# Altium footprint library MLACHQ_S.PCBLIB: 155 footprints (part 2 of 10)
Each footprint in its own frame and in the unit in brackets; x right, y up, seen from the top. Pads: shape width x height; smd on the part's side, far side on the other; paste and mask are expansions set on the pad; w line width, h text height; cw(c..) or ccw(c..) is an arc to the next point about the centre after c.
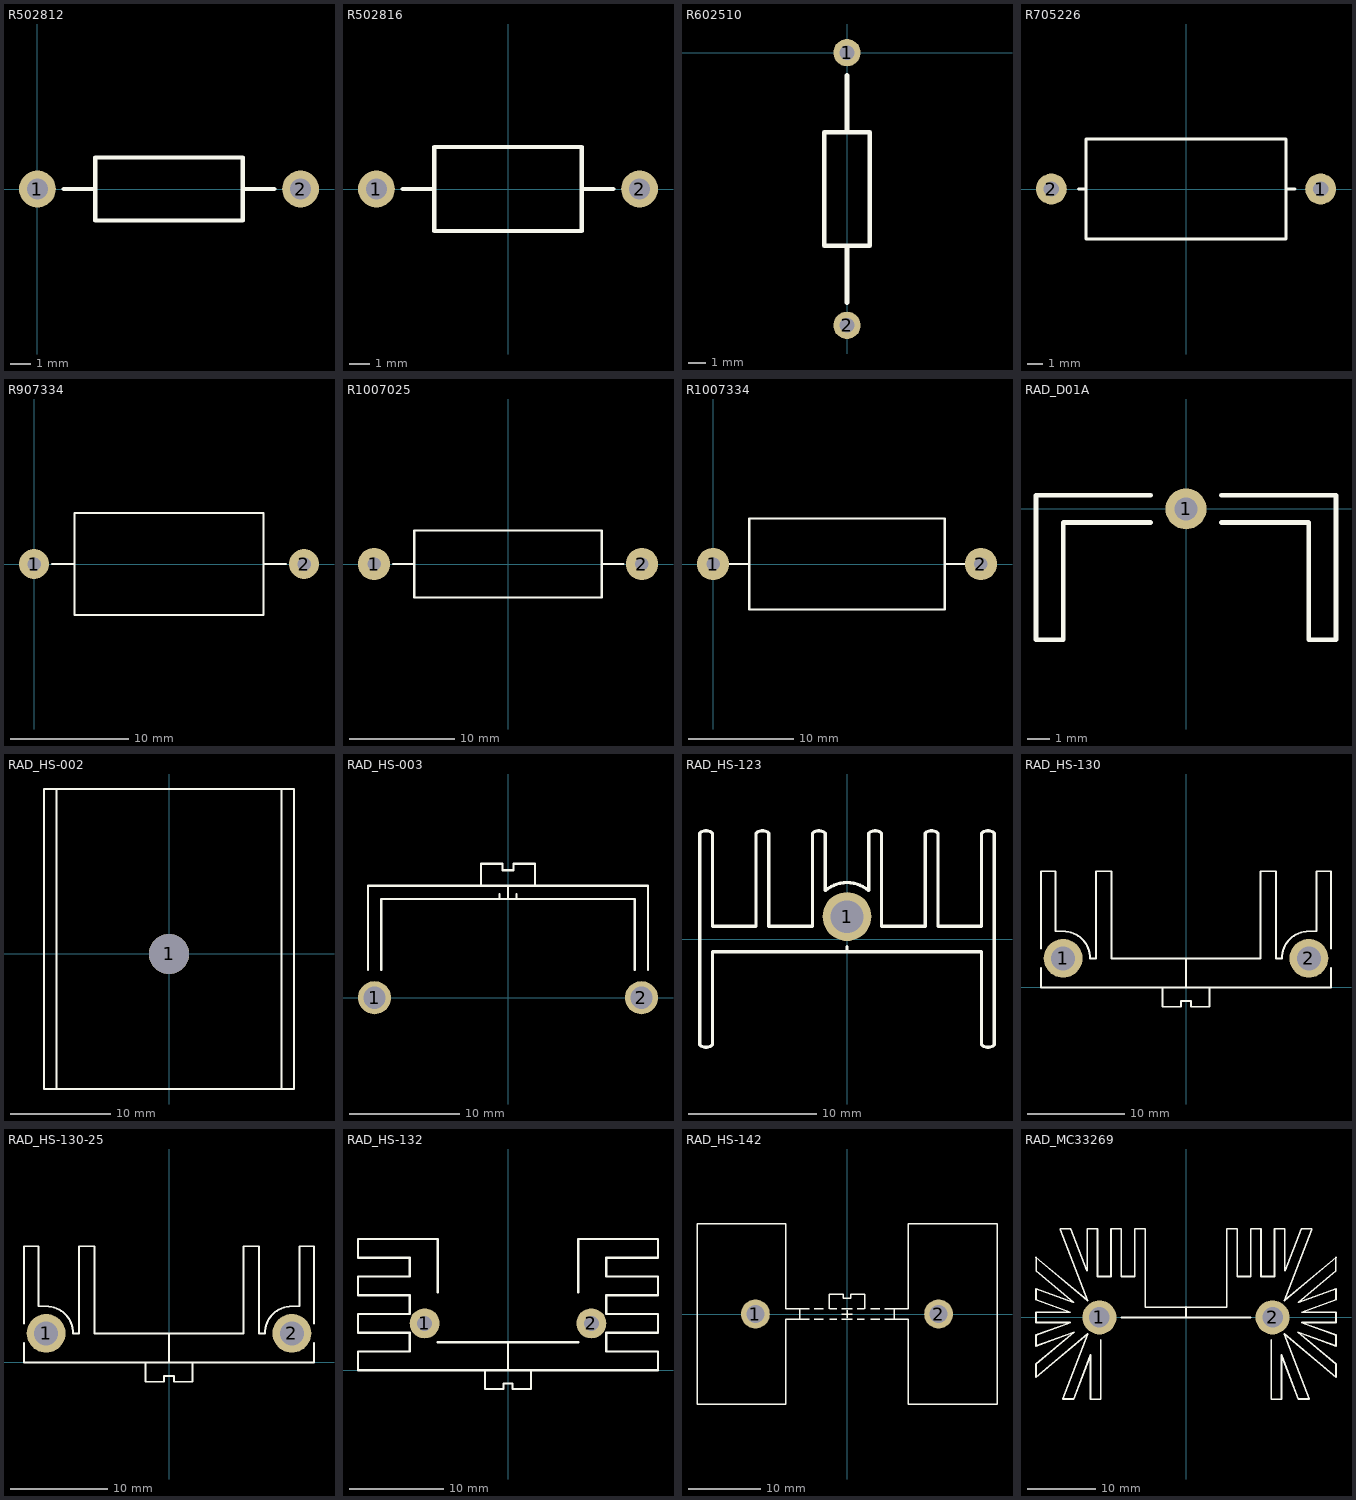
[diagram p1: the footprints below, top view; thin cyan lines are the x and y axes]

## R502812 [mil]
pads (2):
  round 70 hole 40: 1(0,0) 2(500,0)
TopOverlay:
  lines w8: 50,0 110,0 ; 390,0 450,0 ; 110,-60 390,-60 390,60 110,60 110,-60

## R502816 [mil]
pads (2):
  round 70 hole 40: 1(-250,0) 2(250,0)
TopOverlay:
  lines w8: -200,0 -140,0 ; 140,0 200,0 ; -140,-80 -140,80 140,80 140,-80 -140,-80

## R602510 [mil]
pads (2):
  round 60 hole 32: 1(0,0) 2(0,-600)
TopOverlay:
  lines w10: 0,-550 0,-425 ; 0,-175 0,-50 ; -50,-425 -50,-175 50,-175 50,-425 -50,-425

## R705226 [mil]
pads (2):
  round 80 hole 40: 1(350,0) 2(-350,0)
TopOverlay:
  lines w8: -279.53,0 -260,0 ; 260,0 283.46,0 ; -260,-130 -260,130 260,130 260,-130 -260,-130
3D body: height 121.89, standoff 82.68, extent 200.79,-11.79 350.39,27.5
3D body: height 118.11, standoff -78.74, extent 340,-11.79 379.21,27.5
3D body: height 122.05, standoff -78.74, extent -370.08,-19.65 -330.86,19.65
3D body: height 121.89, standoff 82.68, extent -344.49,-19.61 -151.57,19.68
3D body: height 200.01, standoff 3.94, extent -237.44,-98.23 235,98.23
3D body: height 203.92, standoff 0, extent 202.76,-102.36 214.57,101.96
3D body: height 203.92, standoff 0, extent 183.07,-101.96 194.88,102.36
3D body: height 203.92, standoff 0, extent 163.39,-101.96 175.2,102.36
3D body: height 203.92, standoff 0, extent 145.67,-101.96 157.48,102.36

## R907334 [mil]
pads (2):
  round 100 hole 45: 1(0,0) 2(900,0)
TopOverlay:
  lines w8: 60,0 130,0 ; 765,0 840,0 ; 135,-170 135,170 765,170 765,-170 135,-170

## R1007025 [mil]
pads (2):
  round 120 hole 50: 1(-500,0) 2(500,0)
TopOverlay:
  lines w8: -430,0 -350,0 ; 350,0 430,0 ; -350,-125 -350,125 350,125 350,-125 -350,-125

## R1007334 [mil]
pads (2):
  round 120 hole 50: 1(0,0) 2(1000,0)
TopOverlay:
  lines w8: 60,0 135,0 ; 865,0 940,0 ; 135,-170 865,-170 865,170 135,170 135,-170

## RAD_D01A [mm]
pads (1):
  round 1.8 hole 1: 1(0,0)
TopOverlay:
  lines w0.2: -1.55,-0.6 -5.4,-0.6 -5.4,-5.75 -6.6,-5.75 -6.6,-0.6 -6.6,0.6 -1.55,0.6 ; 1.55,-0.6 5.4,-0.6 5.4,-5.75 6.6,-5.75 6.6,-0.6 6.6,0.6 1.55,0.6
3D body: height 19.05, standoff 0, extent -6.6,-3.4 6.6,0.6
3D body: height 2.5, standoff 0, extent -6.6,-5.75 -5.4,-3.4
3D body: height 6.65, standoff 4.15, extent -6.6,-5.75 -5.4,-3.4
3D body: height 10.8, standoff 8.3, extent -6.6,-5.75 -5.4,-3.4
3D body: height 14.95, standoff 12.45, extent -6.6,-5.75 -5.4,-3.4
3D body: height 19.05, standoff 16.6, extent -6.6,-5.75 -5.4,-3.4
3D body: height 19.05, standoff 16.6, extent 5.4,-5.75 6.6,-3.4
3D body: height 14.95, standoff 12.45, extent 5.4,-5.75 6.6,-3.4
3D body: height 10.8, standoff 8.3, extent 5.4,-5.75 6.6,-3.4
3D body: height 6.65, standoff 4.15, extent 5.4,-5.75 6.6,-3.4
3D body: height 2.5, standoff 0, extent 5.4,-5.75 6.6,-3.4

## RAD_HS-002 [mm]
pads (1):
  round 4 hole 4: 1(0,0)
TopOverlay:
  lines w0.203: -11.25,-13.5 -11.25,16.5 ; 11.25,-13.5 11.25,16.5 ; -12.5,-13.5 12.5,-13.5 12.5,16.5 -12.5,16.5 -12.5,-13.5 ; -12.5,-13.5 -12.5,-13.5
3D body: height 13.75, standoff 0, extent -12.5,-13.5 12.5,16.5

## RAD_HS-003 [mm]
height 38
pads (2):
  round 3 hole 2: 1(-12.1,0) 2(12.1,0)
TopOverlay:
  lines w0.2: -2.45,10.15 -2.45,12.15 -0.5,12.15 -0.5,11.55 0,11.55 0.5,11.55 0.5,12.15 2.45,12.15 2.45,10.15
  lines w0.203: -12.7,2.54 -12.7,10.16 0,10.16 12.7,10.16 12.7,2.54 ; -11.5,2.54 -11.5,8.96 0,8.96 11.5,8.96 11.5,2.54 ; -0.762,9.017 -0.762,9.398 ; 0,9.017 0,10.033 ; 0.762,9.017 0.762,9.398
3D body: height 30, standoff 0, extent -12.7,-1.9 12.7,10.16

## RAD_HS-123 [mm]
pads (1):
  round 3.81 hole 2.54: 1(0,1.75)
TopOverlay:
  lines w0.254: -1.7,3.8 -1.7,8.25 ccw(c-2.2,7.75) -2.7,8.25 -2.7,1 -6.1,1 -6.1,8.25 ccw(c-6.6,7.75) -7.1,8.25 -7.1,1 -10.5,1 -10.5,8.25 ccw(c-11,7.75) -11.5,8.25 -11.5,-8.25 ccw(c-11,-7.75) -10.5,-8.25 -10.5,-1 10.5,-1 10.5,-8.25 ccw(c11,-7.75) 11.5,-8.25 11.5,8.25 ccw(c11,7.75) 10.5,8.25 10.5,1 7.1,1 7.1,8.25 ccw(c6.6,7.75) 6.1,8.25 6.1,1 2.7,1 2.7,8.25 ccw(c2.2,7.75) 1.7,8.25 1.7,3.8 ; -1.685,3.783 cw(c0,1.8) 1.685,3.783 ; 0,-1 0,-0.6

## RAD_HS-130 [mm]
height 38
pads (2):
  round 4 hole 2.5: 1(-12.7,3) 2(12.7,3)
TopOverlay:
  lines w0.2: -15,2 -15,0 0,0 ; -15,4 -15,12 -13.5,12 -13.5,5.8 -12.7,5.8 cw(c-12.7,3) -9.9,3 -9.3,3 -9.3,12 -7.7,12 -7.7,3 0,3 ; -2.45,0 -2.45,-2 -0.5,-2 -0.5,-1.4 0,-1.4 0.5,-1.4 0.5,-2 2.45,-2 2.45,0 ; 15,2 15,0 0,0 ; 15,4 15,12 13.5,12 13.5,5.8 12.7,5.8 ccw(c12.7,3) 9.9,3 9.3,3 9.3,12 7.7,12 7.7,3 0,3 ; 0,0 0,3
3D body: height 38.2, standoff 0, extent 0,0 15,12
3D body: height 38.2, standoff 0, extent -15,0 0,12

## RAD_HS-130-25 [mm]
height 38
pads (2):
  round 4 hole 2.5: 1(-12.7,3) 2(12.7,3)
TopOverlay:
  lines w0.2: -15,2 -15,0 0,0 ; -15,4 -15,12 -13.5,12 -13.5,5.8 -12.7,5.8 cw(c-12.7,3) -9.9,3 -9.3,3 -9.3,12 -7.7,12 -7.7,3 0,3 ; -2.45,0 -2.45,-2 -0.5,-2 -0.5,-1.4 0,-1.4 0.5,-1.4 0.5,-2 2.45,-2 2.45,0 ; 15,2 15,0 0,0 ; 15,4 15,12 13.5,12 13.5,5.8 12.7,5.8 ccw(c12.7,3) 9.9,3 9.3,3 9.3,12 7.7,12 7.7,3 0,3 ; 0,0 0,3
3D body: height 25, standoff 0, extent -15,0 0,12
3D body: height 25, standoff 0, extent 0,0 15,12

## RAD_HS-132 [mm]
height 38
pads (2):
  round 3.2 hole 1.6: 1(-8.89,5) 2(8.89,5)
TopOverlay:
  lines w0.2: -2.45,0 -2.45,-2 -0.5,-2 -0.5,-1.4 0,-1.4 0.5,-1.4 0.5,-2 2.45,-2 2.45,0 ; 0,0 0,3
  lines w0.254: -7.5,3 0,3 7.5,3 ; -7.5,8.3 -7.5,14 -16,14 -16,12 -10.5,12 -10.5,10 -16,10 -16,8 -10.5,8 -10.5,6 -16,6 -16,4 -10.5,4 -10.5,2 -16,2 -16,0 0,0 16,0 16,2 10.5,2 10.5,4 16,4 16,6 10.5,6 10.5,8 16,8 16,10 10.5,10 10.5,12 16,12 16,14 7.5,14 7.5,8.3
3D body: height 38.2, standoff 0, extent -16,0 16,14

## RAD_HS-142 [mm]
height 38
pads (2):
  round 4 hole 2.5: 1(-12.7,0) 2(12.7,0)
TopOverlay:
  lines w0.2: -2.45,0.75 -2.45,2.75 -0.5,2.75 -0.5,2.15 0,2.15 0.5,2.15 0.5,2.75 2.45,2.75 2.45,0.75
  lines w0.203: -5.207,-0.762 -5.219,-0.75 -6.55,-0.75 ; -5.207,0.762 -5.219,0.75 -6.55,0.75 ; -4.572,-0.75 -3.302,-0.75 ; -4.572,0.75 -3.302,0.75 ; -2.413,-0.75 -1.397,-0.75 ; -2.413,0.75 -1.397,0.75 ; -0.762,-0.75 0,-0.75 0.762,-0.75 ; -0.762,0 0.762,0 ; -0.762,0.75 0,0.75 0.762,0.75 ; 0,-0.508 0,0.508 ; 1.397,-0.75 2.413,-0.75 ; 1.397,0.75 2.413,0.75 ; 3.302,-0.75 4.572,-0.75 ; 3.302,0.75 4.572,0.75 ; 5.207,-0.762 5.219,-0.75 6.55,-0.75 ; 5.207,0.762 5.219,0.75 6.55,0.75 ; -6.55,-0.75 -6.55,0.75 ; -6.55,-0.75 -8.5,-0.75 -8.5,-12.5 -20.8,-12.5 -20.8,0 -20.8,12.5 -8.5,12.5 -8.5,0.75 -6.55,0.75 ; 6.55,-0.75 8.5,-0.75 8.5,-12.5 20.8,-12.5 20.8,0 20.8,12.5 8.5,12.5 8.5,0.75 6.55,0.75 ; 6.55,-0.75 6.55,0.75
3D body: height 38, standoff 0, extent -20.8,-12.5 20.8,12.5

## RAD_MC33269 [mm]
pads (2):
  round 5 hole 3: 1(-12.7,0) 2(12.7,0)
TopOverlay:
  lines w0.25: -17,-0.75 -22,-0.75 -22,0.75 -17,0.75 ; -16.979,-0.759 -22.004,-2.588 -22.005,-2.588 -22.005,-4.185 -16.474,-2.172 ; -16.979,0.759 -22.004,2.588 -22.004,4.185 -22.005,4.185 -16.594,2.216 ; -16.495,2.206 -21.988,6.815 -21.988,8.789 -22.009,8.789 -14.506,2.493 ; -16.436,-2.157 -21.988,-6.815 -22.009,-6.815 -22.009,-8.789 -14.398,-2.403 ; -14.54,6.885 -16.889,13.004 -18.461,13.004 -18.461,12.915 -14.434,2.425 ; -14.5,6.9 -14.5,13 -13,13 -13,6 -11,6 -11,13 -9.5,13 -9.5,6 -7.5,6 -7.5,13 -6,13 -6,1.5 0,1.5 6,1.5 6,13 7.5,13 7.5,6 9.5,6 9.5,13 11,13 11,6 13,6 13,13 14.5,13 14.5,6.9 ; -14.434,-2.425 -18.098,-11.97 -18.098,-11.966 -16.49,-11.966 -14.007,-5.497 ; -14,-5.5 -14,-12 -12.5,-12 -12.5,-3.3 ; -9.5,0 0,0 9.5,0 ; 12.5,-3.3 12.5,-12 14,-12 14,-5.5 ; 14.007,-5.497 16.49,-11.966 18.098,-11.966 18.098,-11.97 14.434,-2.425 ; 14.398,-2.403 22.009,-8.789 22.009,-6.815 21.988,-6.815 16.436,-2.157 ; 14.434,2.425 18.461,12.915 18.461,13.004 16.889,13.004 14.54,6.885 ; 14.506,2.493 22.009,8.789 21.988,8.789 21.988,6.815 16.495,2.206 ; 16.474,-2.172 22.005,-4.185 22.005,-2.588 22.004,-2.588 16.979,-0.759 ; 16.594,2.216 22.005,4.185 22.004,4.185 22.004,2.588 16.979,0.759 ; 17,-0.75 22,-0.75 22,0.75 17,0.75
  lines w0.3: 0,0 0,1.5
3D body: height 38.1, standoff 0, extent -22.009,-12 22.009,13.004